# EAGLE library part SWITCH-DPDT (library SKAARHOJ)
DPDT Version of the COM-00597
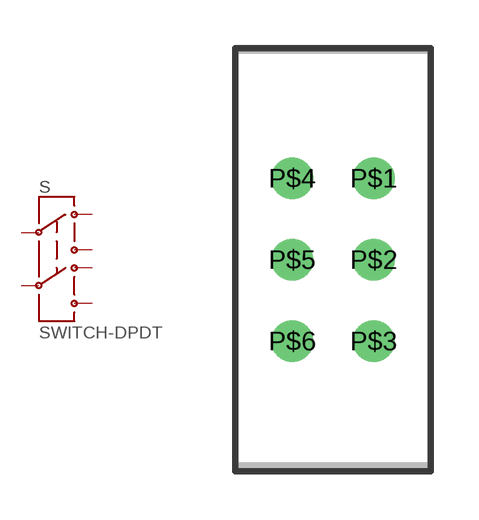
[diagram p3: symbol with the pads of TECONNECTIVITY-DPDT; footprint TECONNECTIVITY-DPDT]

Designator prefix S

## SWITCH-DPDTPTH1  [TECONNECTIVITY-DPDT]
P$1  1
P$2  2
P$3  3
P$4  4
P$5  5
P$6  6

## Footprint TECONNECTIVITY-DPDT (pad centres in mm)
RS Component Part Number: 745-5820 Manufacturer: TECONNECTIVITY
drill 0.8: P$1 1.27,2.54; P$2 1.27,0; P$3 1.27,-2.54; P$4 -1.27,2.54; P$5 -1.27,0; P$6 -1.27,-2.54